# EAGLE library part MFRC52202HN1,115 (library SamacSys_Parts)
Standard performance MIFARE and NTAG frontend Source: Datasheet <http://www.nxp.com/docs/en/data-sheet/MFRC522.pdf>
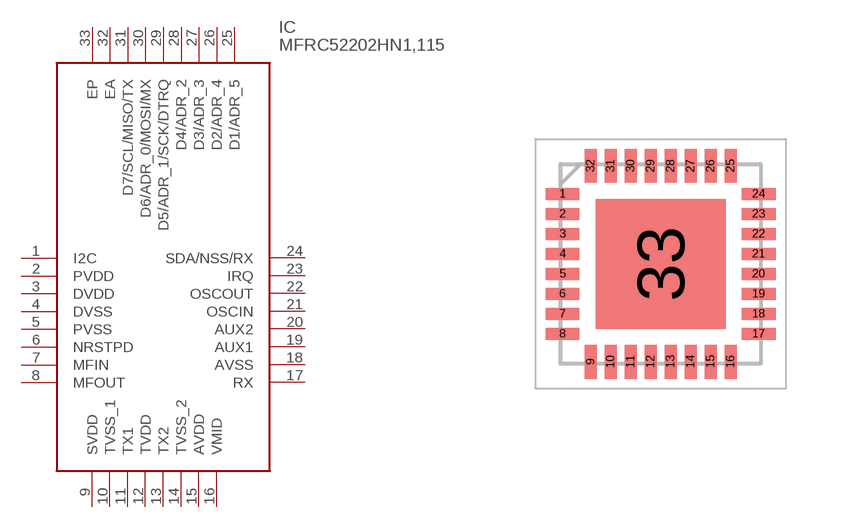
[diagram p0: symbol with the pads of QFN50P500X500X100-33N; footprint QFN50P500X500X100-33N]

Designator prefix IC

## MFRC52202HN1,115 (DESCRIPTION: Standard performance MIFARE and NTAG frontend; HEIGHT: 1mm; MANUFACTURER_NAME: NXP; MANUFACTURER_PART_NUMBER: MFRC52202HN1,115; MOUSER_PART_NUMBER: 771-MFRC52202HN1115; MOUSER_PRICE-STOCK: https://www.mouser.co.uk/ProductDetail/NXP-Semiconductors/MFRC52202HN1115?qs=cbprxTG2Yq%2F%252BkR%2FEgMbBLA%3D%3D)  [QFN50P500X500X100-33N]
1  I2C
2  PVDD
3  DVDD
4  DVSS
5  PVSS
6  NRSTPD
7  MFIN
8  MFOUT
9  SVDD
10  TVSS_1
11  TX1
12  TVDD
13  TX2
14  TVSS_2
15  AVDD
16  VMID
17  RX
18  AVSS
19  AUX1
20  AUX2
21  OSCIN
22  OSCOUT
23  IRQ
24  SDA/NSS/RX
25  D1/ADR_5
26  D2/ADR_4
27  D3/ADR_3
28  D4/ADR_2
29  D5/ADR_1/SCK/DTRQ
30  D6/ADR_0/MOSI/MX
31  D7/SCL/MISO/TX
32  EA
33  EP

## Footprint QFN50P500X500X100-33N (pad centres in mm)
SOT617-1
smd 0.85 x 0.3: 1 -2.45,1.75; 2 -2.45,1.25; 3 -2.45,0.75; 4 -2.45,0.25; 5 -2.45,-0.25; 6 -2.45,-0.75; 7 -2.45,-1.25; 8 -2.45,-1.75; 17 2.45,-1.75; 18 2.45,-1.25; 19 2.45,-0.75; 20 2.45,-0.25; 21 2.45,0.25; 22 2.45,0.75; 23 2.45,1.25; 24 2.45,1.75
smd 0.3 x 0.85: 9 -1.75,-2.45; 10 -1.25,-2.45; 11 -0.75,-2.45; 12 -0.25,-2.45; 13 0.25,-2.45; 14 0.75,-2.45; 15 1.25,-2.45; 16 1.75,-2.45; 25 1.75,2.45; 26 1.25,2.45; 27 0.75,2.45; 28 0.25,2.45; 29 -0.25,2.45; 30 -0.75,2.45; 31 -1.25,2.45; 32 -1.75,2.45
smd 3.25 x 3.25: 33 0,0